# EAGLE library part 5569-24 (library con-molex-5569)
4.20mm Pitch Mini-Fit Jr.™ 24 pin Source: http://www.molex.com/molex/products/family?key=minifit_jr&channel=PRODUCTS&chanName=family&pageTitle=Introduction
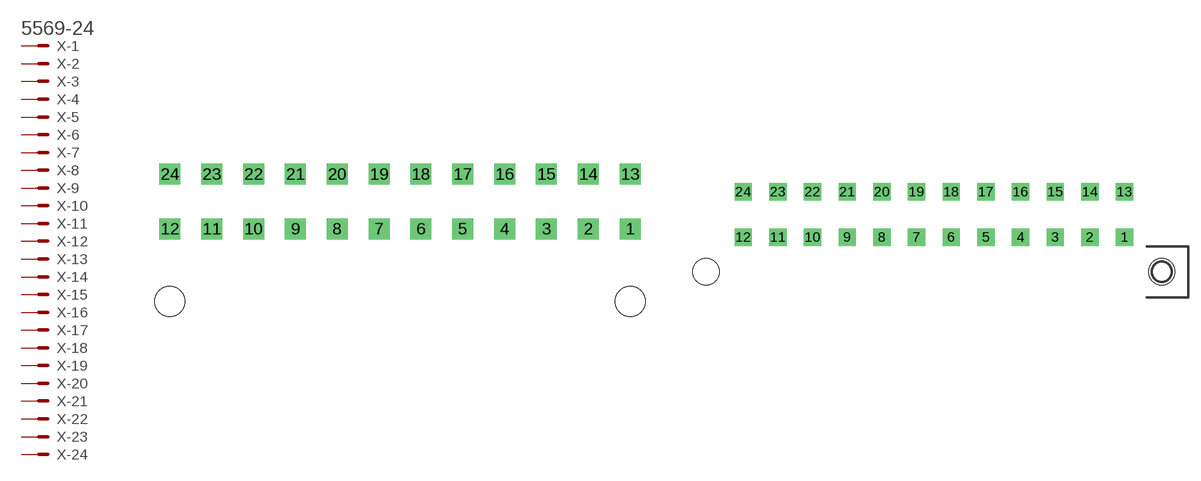
[diagram p2: symbol with the pads of 5569-24; footprints 5569-24, 5569-24A]

Designator prefix X; gates -1=MV -2=M -3=M -4=M -5=M -6=M -7=M -8=M -9=M -10=M -11=M -12=M -13=M -14=M -15=M -16=M -17=M -18=M -19=M -20=M -21=M -22=M -23=M -24=M

## 5569-24  [5569-24]
1  -1:>NAME$
2  -2:>NAME$
3  -3:>NAME$
4  -4:>NAME$
5  -5:>NAME$
6  -6:>NAME$
7  -7:>NAME$
8  -8:>NAME$
9  -9:>NAME$
10  -10:>NAME$
11  -11:>NAME$
12  -12:>NAME$
13  -13:>NAME$
14  -14:>NAME$
15  -15:>NAME$
16  -16:>NAME$
17  -17:>NAME$
18  -18:>NAME$
19  -19:>NAME$
20  -20:>NAME$
21  -21:>NAME$
22  -22:>NAME$
23  -23:>NAME$
24  -24:>NAME$

## 5569-24A  [5569-24A]
Pads as for 5569-24

## Footprint 5569-24 (pad centres in mm)
5569-24 - 24 pin 4.20mm Pitch Mini-Fit Jr.™ Header, Dual Row, Right Angle, with Snap-in Plastic Peg PCB Lock. Source: http://www.molex.com/pdm_docs/sd/039307025_sd.pdf
drill 1.4 square: 1 23.1,-2.75; 2 18.9,-2.75; 3 14.7,-2.75; 4 10.5,-2.75; 5 6.3,-2.75; 6 2.1,-2.75; 7 -2.1,-2.75; 8 -6.3,-2.75; 9 -10.5,-2.75; 10 -14.7,-2.75; 11 -18.9,-2.75; 12 -23.1,-2.75; 13 23.1,2.75; 14 18.9,2.75; 15 14.7,2.75; 16 10.5,2.75; 17 6.3,2.75; 18 2.1,2.75; 19 -2.1,2.75; 20 -6.3,2.75; 21 -10.5,2.75; 22 -14.7,2.75; 23 -18.9,2.75; 24 -23.1,2.75
hole 3 at 23.1,-10.05
hole 3 at -23.1,-10.05

## Footprint 5569-24A (pad centres in mm)
5569-24A - 24 pin 4.20mm Pitch Mini-Fit Jr.™ Header, Dual Row, Right Angle, with PCB Mounting Flange. Source: http://www.molex.com/pdm_docs/sd/039291048_sd.pdf
drill 1.4 square: 1 23.1,-2.75; 2 18.9,-2.75; 3 14.7,-2.75; 4 10.5,-2.75; 5 6.3,-2.75; 6 2.1,-2.75; 7 -2.1,-2.75; 8 -6.3,-2.75; 9 -10.5,-2.75; 10 -14.7,-2.75; 11 -18.9,-2.75; 12 -23.1,-2.75; 13 23.1,2.75; 14 18.9,2.75; 15 14.7,2.75; 16 10.5,2.75; 17 6.3,2.75; 18 2.1,2.75; 19 -2.1,2.75; 20 -6.3,2.75; 21 -10.5,2.75; 22 -14.7,2.75; 23 -18.9,2.75; 24 -23.1,2.75
hole 3.2 at 27.6,-6.95
hole 3.2 at -27.6,-6.95